# Altium footprint library SnapEDApcb.PcbLib: 1 footprints
Each footprint in its own frame and in the unit in brackets; x right, y up, seen from the top. Pads: shape width x height; smd on the part's side, far side on the other; paste and mask are expansions set on the pad; w line width, h text height; cw(c..) or ccw(c..) is an arc to the next point about the centre after c.
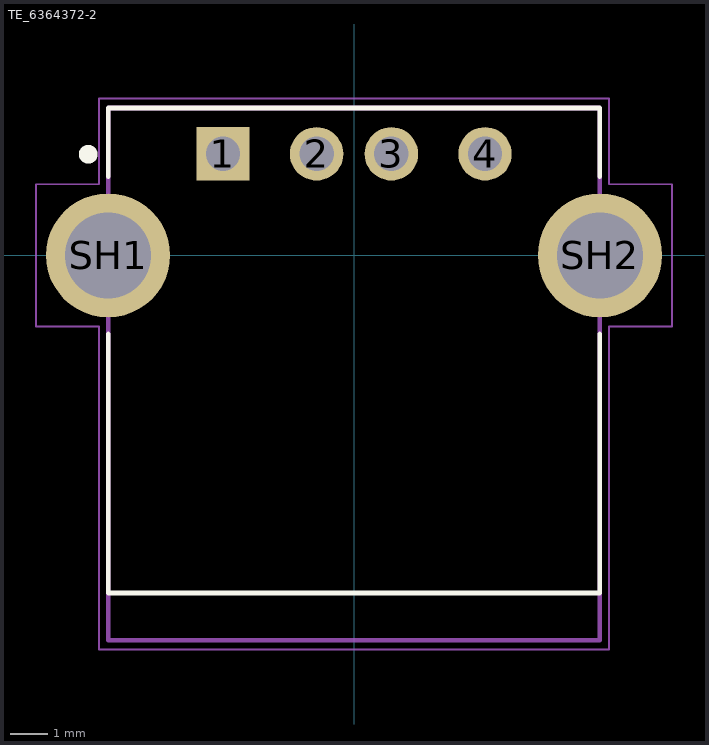
[diagram p0: the footprint, top view; thin cyan lines are the x and y axes]

## TE_6364372-2 [mm]
pads (6):
  rect 1.428x1.428 hole 0.92: 1(-3.5,2.71)
  round 1.428 hole 0.92: 2(-1,2.71) 3(1,2.71) 4(3.5,2.71)
  round 3.316 hole 2.3: SH1(-6.57,0) SH2(6.57,0)
Top Overlay:
  circle w0.3: c-7.1,2.7 r0.1
  lines w0.127: -6.565,-2.1 -6.565,-9.017 6.565,-9.017 6.565,-2.1 ; -6.565,2.1 -6.565,3.937 6.565,3.937 6.565,2.1
Mechanical 13:
  lines w0.127: -6.565,-10.28 -6.565,3.937 6.565,3.937 6.565,-10.28 -6.565,-10.28
Mechanical 15:
  lines w0.05: -8.5,-1.9 -8.5,1.9 -6.815,1.9 -6.815,4.191 6.815,4.191 6.815,1.9 8.5,1.9 8.5,-1.9 6.815,-1.9 6.815,-10.53 -6.815,-10.53 -6.815,-1.9 -8.5,-1.9
3D body "6364372-2.stp": height 7.69, standoff -3.16, extent -7.264,-10.302 7.366,3.698